# Altium footprint library ITR20001T.PcbLib: 1 footprints
Each footprint in its own frame and in the unit in brackets; x right, y up, seen from the top. Pads: shape width x height; smd on the part's side, far side on the other; paste and mask are expansions set on the pad; w line width, h text height; cw(c..) or ccw(c..) is an arc to the next point about the centre after c.
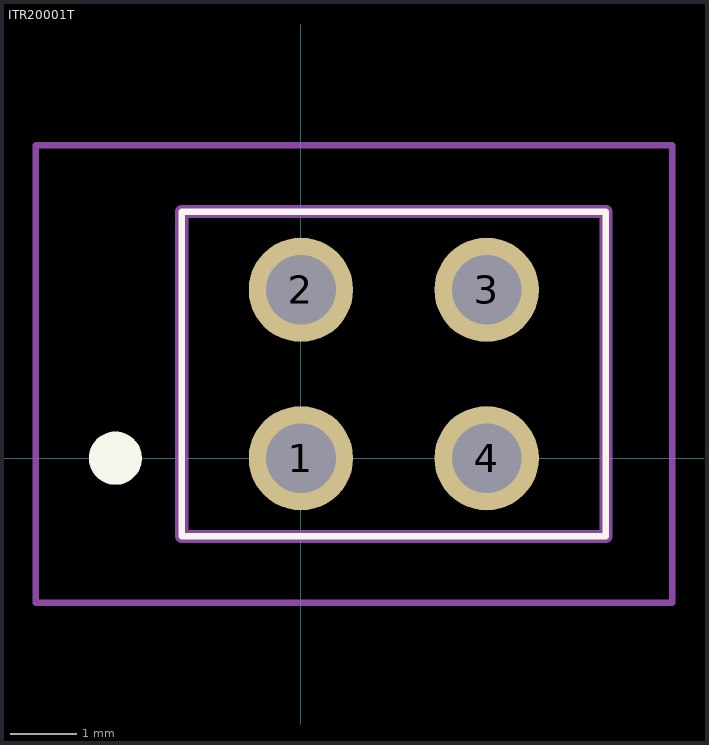
[diagram p0: the footprint, top view; thin cyan lines are the x and y axes]

## ITR20001T [mm]
pads (4):
  round 1.575 hole 1.05: 1(0,0) 2(0,2.54) 3(2.8,2.54) 4(2.8,0)
Top Overlay:
  lines w0.1: -1.8,-1.18 4.6,-1.18 4.6,3.72 -1.8,3.72 -1.8,-1.18
  lines w0.4: -3,0 -3,0 ; -3,0 ccw(c-2.8,0) -2.6,0 ; -3,0 cw(c-2.8,0) -2.6,0 ; -2.6,0 -2.6,0
Mechanical 15:
  lines w0.2: -1.8,-1.18 4.6,-1.18 4.6,3.72 -1.8,3.72 -1.8,-1.18
Mechanical 20:
  lines w0.1: -4,-2.18 5.6,-2.18 5.6,4.72 -4,4.72 -4,-2.18